# Altium schematic symbol library INDUCTOR-TEMP.SchLib: 1 symbol
Pins are listed as number, name and electrical type; pins without a type are passive.

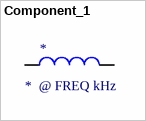
[diagram p0: symbol Component_1]

## Component_1
designator *  Inductance: *  @ FREQ kHz  (hidden comment: *)
ComponentLink1Description: Datasheet
pins: 1, 2